# Altium schematic symbol library 54-00177.SchLib: 1 symbol
Pins are listed as number, name and electrical type; pins without a type are passive.

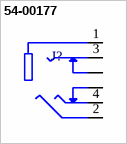
[diagram p0: symbol 54-00177]

## 54-00177
designator J?  (value not drawn)
Connector, 4C audio jack, 3.5xL14 mm, SMT mount, gold plated; MF: Tensility International Corp; MP: 54-00177; Package: None; Price: None; Check_prices: https://www.snapeda.com/parts/54-00177/Tensility+International+Corp/view-part/?ref=eda; Value: *; SnapEDA_Link: https://www.snapeda.com/parts/54-00177/Tensility+International+Corp/view-part/?ref=snap; Availability: In Stock; Purchase-URL: https://pricing.snapeda.com/search?q=54-00177&ref=eda
footprint TENSILITY_54-00177
pins: 1, 2, 3, 4, 5, 6